# EAGLE library part R_EU_ARRAY_4 (library pepin)
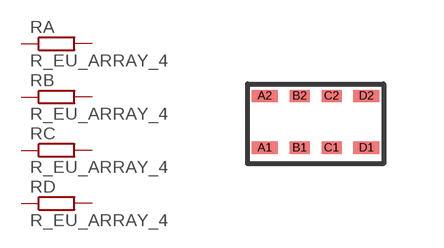
[diagram p16: symbol with the pads of YC164_ARRAY; footprint YC164_ARRAY]

Designator prefix R; gates A=R-EU-1 B=R-EU-1 C=R-EU-1 D=R-EU-1

## R_EU_ARRAY_4  [YC164_ARRAY]
A1  A:1  pas
A2  A:2  pas
B1  B:1  pas
B2  B:2  pas
C1  C:1  pas
C2  C:2  pas
D1  D:1  pas
D2  D:2  pas

## Footprint YC164_ARRAY (pad centres in mm)
smd 0.65 x 0.3: A1 -1.32,-0.7; A2 -1.32,0.6; D1 1.22,-0.7; D2 1.22,0.6
smd 0.5 x 0.3: B1 -0.45,-0.7; B2 -0.45,0.6; C1 0.35,-0.7; C2 0.35,0.6